# EAGLE library part ATTINY85 (library attiny)
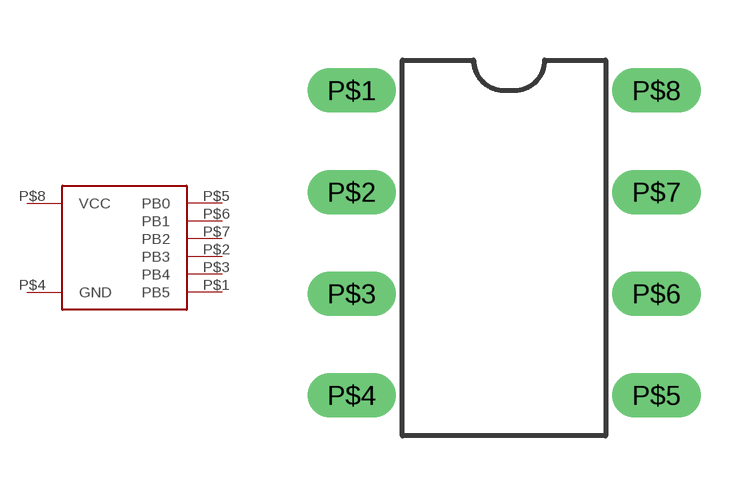
[diagram p0: symbol with the pads of PDIP-8; footprint PDIP-8]

Designator prefix -

## ATTINY85PDIP-8  [PDIP-8]
P$1  PB5
P$2  PB3
P$3  PB4
P$4  GND
P$5  PB0
P$6  PB1
P$7  PB2
P$8  VCC

## Footprint PDIP-8 (pad centres in mm)
drill 0.6 long: P$1 -3.81,7.62; P$2 -3.81,5.08; P$3 -3.81,2.54; P$4 -3.81,0; P$5 3.81,0; P$6 3.81,2.54; P$7 3.81,5.08; P$8 3.81,7.62